# Altium footprint library SG__PCB_HOLE_Passive.PcbLib: 23 footprints (part 1 of 2)
Each footprint in its own frame and in the unit in brackets; x right, y up, seen from the top. Pads: shape width x height; smd on the part's side, far side on the other; paste and mask are expansions set on the pad; w line width, h text height; cw(c..) or ccw(c..) is an arc to the next point about the centre after c.
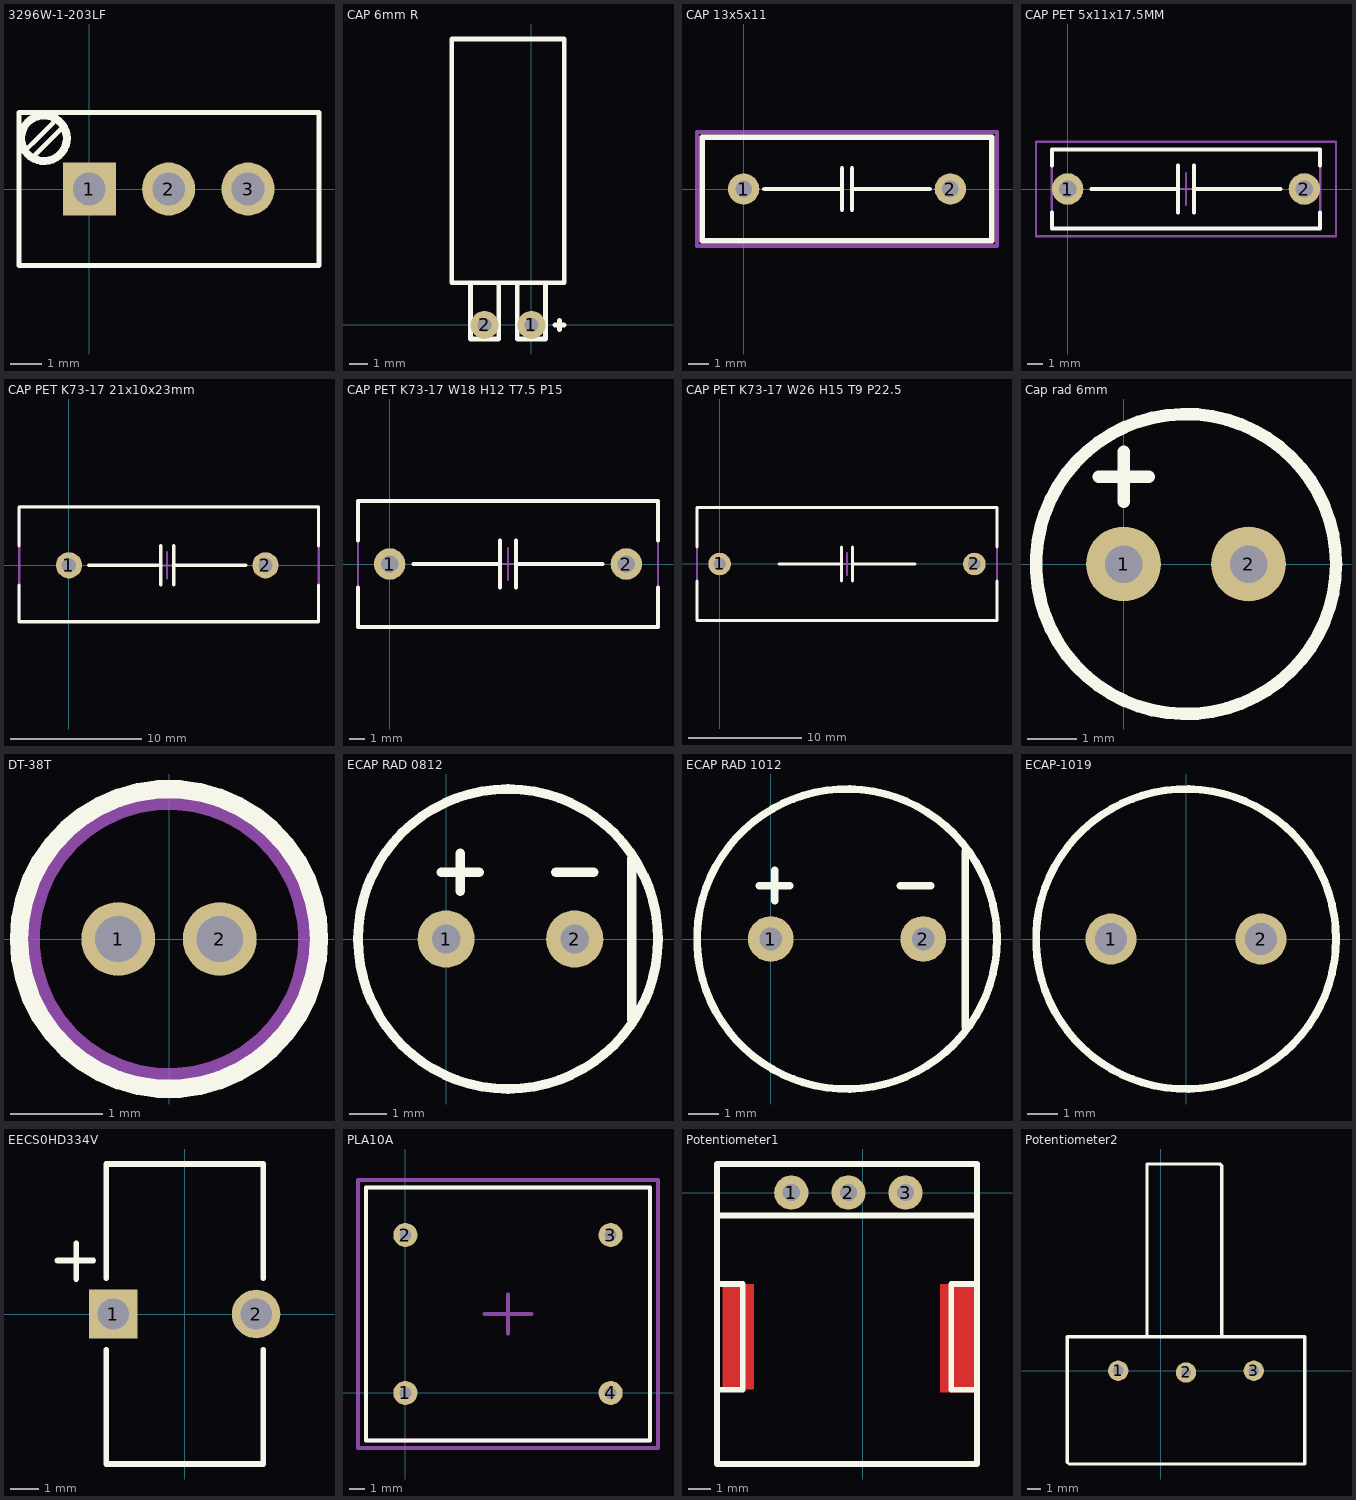
[diagram p0: the footprints below, top view; thin cyan lines are the x and y axes]

## 3296W-1-203LF [mm]
pads (3):
  rect 1.7x1.7 hole 1.05 mask+0.05: 1(0,0)
  round 1.7 hole 1.05 mask+0.05: 2(2.54,0) 3(5.08,0)
Top Overlay:
  circle w0.254: c-1.45,1.625 r0.73
  lines w0.15: -2.075,1.2 -1.6,1.675 -1.15,2.125 ; -1.825,1 -1.35,1.475 -0.9,1.925 ; -2.25,-2.45 7.35,-2.45 7.35,2.45 -2.25,2.45 -2.25,-2.45
3D body "3296W.STEP": height 11.5, standoff -4.1, extent -2.2,-2.425 7.3,2.425

## CAP 6mm R [mil]
pads (2):
  round 60 hole 30: 1(0,0) 2(-100,0)
Top Overlay:
  lines w10: -130,90 -130,-30 -70,-30 -70,90 ; -30,90 -30,-30 30,-30 30,90 ; 50,0 70,0 ; 60,-10 60,10 ; -170,90 -170,610 70,610 70,90 -170,90
3D body "cap 6mm R.stp": height 236.22, standoff -19.69, extent -168.11,-7.8 68.11,602.44

## CAP 13x5x11 [mil]
pads (2):
  round 60 hole 31.5: 1(0,0) 2(393.7,0)
Top Overlay:
  lines w7.87: 39.37,0 187.01,0 ; 187.01,-39.37 187.01,0 ; 187.01,39.37 187.01,0 ; 206.69,-39.37 206.69,39.37 ; 206.69,0 354.33,0
  lines w10: -78.74,-98.43 472.44,-98.43 472.44,98.43 -78.74,98.43 -78.74,0 -78.74,-98.43
Top Assembly:
  lines w10: -78.74,-98.43 472.44,-98.43 472.44,98.43 -78.74,98.43 -78.74,0 -78.74,-98.43
Top Courtyard:
  lines w7.87: -88.58,-108.27 -88.58,108.27 482.28,108.27 482.28,-108.27 -88.58,-108.27
3D body: height 433.07, standoff 0, extent -78.74,-98.43 472.44,98.43

## CAP PET 5x11x17.5MM [mm]
pads (2):
  round 2 hole 1.1: 1(0,0) 2(15,0)
Top Overlay:
  lines w0.25: -1,-1.5 -1,-2.5 16,-2.5 16,-1.5 ; -1,1.5 -1,2.5 16,2.5 16,1.5 ; 1.5,0 7,0 ; 7,-1.5 7,1.5 ; 8,-1.5 8,1.5 ; 8,0 13.5,0
Top Assembly:
  lines w0.15: -1,-2.5 16,-2.5 16,2.5 -1,2.5 -1,-2.5
Top Courtyard:
  lines w0.15: 6.5,0 8.5,0 ; 7.5,-1 7.5,1 ; -2,-3 -2,3 17,3 17,-3 -2,-3
3D body: height 11, standoff 1, extent -1,-2.5 16,2.5

## CAP PET K73-17 21x10x23mm [mm]
height 23
pads (2):
  round 2 hole 1.1: 1(0,0) 2(15,0)
Top Overlay:
  lines w0.25: -3.81,-1.5 -3.81,-4.318 19.05,-4.318 19.05,-1.5 ; -3.81,1.5 -3.81,4.445 19.05,4.445 19.05,1.5 ; 1.5,0 7,0 ; 7,-1.5 7,1.5 ; 8,-1.5 8,1.5 ; 8,0 13.5,0
Top Assembly:
  lines w0.15: -3.81,-4.318 19.05,-4.318 19.05,4.445 -3.81,4.445 -3.81,-4.318
Top Courtyard:
  lines w0.15: 6.5,0 8.5,0 ; 7.5,-1 7.5,1 ; -3.775,-4.247 19.085,-4.247 19.085,4.516 -3.775,4.516 -3.775,-4.247

## CAP PET K73-17 W18 H12 T7.5 P15 [mm]
height 23
pads (2):
  round 2 hole 1.1: 1(0,0) 2(15,0)
Top Overlay:
  lines w0.25: -2,-1.5 -2,-4 17,-4 17,-1.5 ; -2,1.5 -2,4 17,4 17,1.5 ; 1.5,0 7,0 ; 7,-1.5 7,1.5 ; 8,-1.5 8,1.5 ; 8,0 13.5,0
Top Assembly:
  lines w0.15: -2,-4 -2,4 17,4 17,-4 -2,-4
Top Courtyard:
  lines w0.15: 6.5,0 8.5,0 ; 7.5,-1 7.5,1 ; -2,-4 -2,4 17,4 17,-4 -2,-4
3D body: height 12, standoff 0, extent -2,-4 17,4

## CAP PET K73-17 W26 H15 T9 P22.5 [mm]
height 23
pads (2):
  round 2 hole 1.1: 1(0,0) 2(22.5,0)
Top Overlay:
  lines w0.25: -2,-1.5 -2,-5 24.5,-5 24.5,-1.5 ; -2,1.5 -2,5 24.5,5 24.5,1.5 ; 5.25,0 10.75,0 ; 10.75,-1.5 10.75,1.5 ; 11.75,-1.5 11.75,1.5 ; 11.75,0 17.25,0
Top Assembly:
  lines w0.15: -2,-5 -2,5 24.5,5 24.5,-5 -2,-5
Top Courtyard:
  lines w0.15: 10.25,0 12.25,0 ; 11.25,-1 11.25,1 ; -2,-5 -2,5 24.5,5 24.5,-5 -2,-5
3D body: height 15, standoff 0, extent -2,-5 24.5,5

## Cap rad 6mm [mil]
height 433.07
pads (2):
  round 60 hole 30: 1(0,0) 2(100,0)
Top Overlay:
  circle w10: c50,0 r120
  lines w10: -20,70 20,70 ; 0,50 0,90
3D body "cap 6mm, aluminium.stp": height 482.44, standoff 10, extent -71.22,-120 165,116.22

## DT-38T [mm] "Crystal Oscillator"
pads (2):
  round 0.8 hole 0.5: 1(-0.55,0) 2(0.55,0)
Top Overlay:
  circle w0.2: c0,0 r1.625
Top Assembly:
  circle w0.2: c0,0 r1.5
Top Courtyard:
  circle w0.15: c0,0 r1.5
3D body "32738.stp": height 8.9, standoff -2, extent -1.5,-1.5 1.5,1.5

## ECAP RAD 0812 [mil]
height 433.07
pads (2):
  round 60 hole 30: 1(0,0) 2(135,0)
Top Overlay:
  circle w10: c65,0 r157.48
  lines w10: -5,70 35,70 ; 15,50 15,90 ; 115,70 155,70 ; 195,-85 195,85
3D body "ECAP RAD 0812.STEP": height 511.81, standoff -118.11, extent -102.33,-167.23 232.32,167.22

## ECAP RAD 1012 [mil]
height 433.07
pads (2):
  round 60 hole 30: 1(0,0) 2(200,0)
Top Overlay:
  circle w10: c100,0 r196.85
  lines w10: -15,70 25,70 ; 5,50 5,90 ; 170,70 210,70 ; 255,-115 255,115
3D body "ECAP RAD 1012.STEP": height 551.18, standoff -118.11, extent -106.69,-206.65 306.69,206.65

## ECAP-1019 [mm]
pads (2):
  round 1.7 hole 1.05: 1(-2.5,0) 2(2.5,0)
Top Overlay:
  circle w0.254: c0,0 r5

## EECS0HD334V [mm]
height 12
pads (2):
  rect 1.7x1.7 hole 1.1 mask+0.05: 1(-2.5,0)
  round 1.7 hole 1.1 mask+0.05: 2(2.5,0)
Top Overlay:
  lines w0.2: -4.45,1.875 -3.2,1.875 ; -3.8,1.225 -3.8,2.475 ; -2.75,-1.25 -2.75,-5.25 2.75,-5.25 2.75,-1.25 ; -2.75,1.25 -2.75,5.25 2.75,5.25 2.75,1.25
3D body: height 10, standoff 0.1, extent -2.6,-5.3 2.7,5.1

## PLA10A [mil]
pads (4):
  round 60 hole 30: 1(0,0) 2(0,393.7) 3(511.81,393.7) 4(511.81,0)
Top Overlay:
  lines w10: -98.43,-118.11 610.24,-118.11 610.24,511.81 -98.43,511.81 -98.43,-118.11
Top Assembly:
  lines w10: -98.43,-118.11 610.24,-118.11 610.24,511.81 -98.43,511.81 -98.43,-118.11
Top Courtyard:
  lines w10: 196.85,196.85 314.96,196.85 ; 255.91,147.64 255.91,246.06 ; -118.11,-137.8 629.92,-137.8 629.92,531.5 -118.11,531.5 -118.11,-137.8
3D body: height 688.98, standoff 0, extent -98.43,-118.11 610.24,511.81

## Potentiometer1 [mil] "Potentiometer 2,54"
pads (3):
  round 60 hole 30: 1(-125,0) 2(-25,0) 3(75,0)
Top Layer:
  rectangle: 135,-350 200,-160
  rectangle: -245,-345 -190,-160
Top Overlay:
  lines w10: -255,-345 -210,-345 -210,-160 -255,-160 ; -255,-40 200,-40 ; 200,-345 155,-345 155,-160 200,-160 ; -255,-475 200,-475 200,50 -125,50 -255,50 -255,-475
3D body "res_podstr2.stp": height 669.29, standoff -113.8, extent -245.48,-462.56 195.47,10

## Potentiometer2 [mil] "Potentiometer 5,08"
pads (3):
  round 60 hole 30: 1(-125,0) 2(75,-5) 3(275,0)
Top Overlay:
  lines w10: -275,-270 -275,100 425,100 425,-275 -270,-275 ; -40,100 -40,610 175,610 180,605 180,100
3D body "res_podstr1.stp": height 885.83, standoff -8.59, extent -259.55,-270 409.63,611.89